# EAGLE library part MT28F008B3 (library IC)
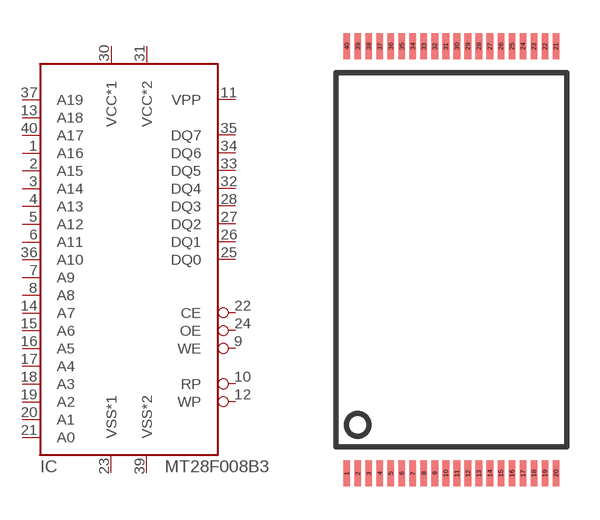
[diagram p25: symbol with the pads of TSOP40-I; footprint TSOP40-I]

Designator prefix IC

## MT28F008B3-VG  [TSOP40-I]
1  A16
2  A15
3  A14
4  A13
5  A12
6  A11
7  A9
8  A8
9  WE
10  RP
11  VPP  pwr
12  WP
13  A18
14  A7
15  A6
16  A5
17  A4
18  A3
19  A2
20  A1
21  A0
22  CE
23  VSS*1  pwr
24  OE
25  DQ0
26  DQ1
27  DQ2
28  DQ3
30  VCC*1  pwr
31  VCC*2  pwr
32  DQ4
33  DQ5
34  DQ6
35  DQ7
36  A10
37  A19
39  VSS*2  pwr
40  A17

## Footprint TSOP40-I (pad centres in mm)
smd 0.3 x 1.2: 1 -5,-9.7; 2 -4.5,-9.7; 3 -4,-9.7; 4 -3.5,-9.7; 5 -3,-9.7; 6 -2.5,-9.7; 7 -2,-9.7; 8 -1.5,-9.7; 9 -1,-9.7; 10 -0.5,-9.7; 11 0,-9.7; 12 0.5,-9.7; 13 1,-9.7; 14 1.5,-9.7; 15 2,-9.7; 16 2.5,-9.7; 17 3,-9.7; 18 3.5,-9.7; 19 4,-9.7; 20 4.5,-9.7; 21 4.5,9.7; 22 4,9.7; 23 3.5,9.7; 24 3,9.7; 25 2.5,9.7; 26 2,9.7; 27 1.5,9.7; 28 1,9.7; 29 0.5,9.7; 30 0,9.7; 31 -0.5,9.7; 32 -1,9.7; 33 -1.5,9.7; 34 -2,9.7; 35 -2.5,9.7; 36 -3,9.7; 37 -3.5,9.7; 38 -4,9.7; 39 -4.5,9.7; 40 -5,9.7